# EAGLE library part FEHLER-STROM-SCHUTZSCHALTER_4-POL (library e-sicherungen)
Fehlerstromschutzschalter (FI) 4-pol mit Prüftaster
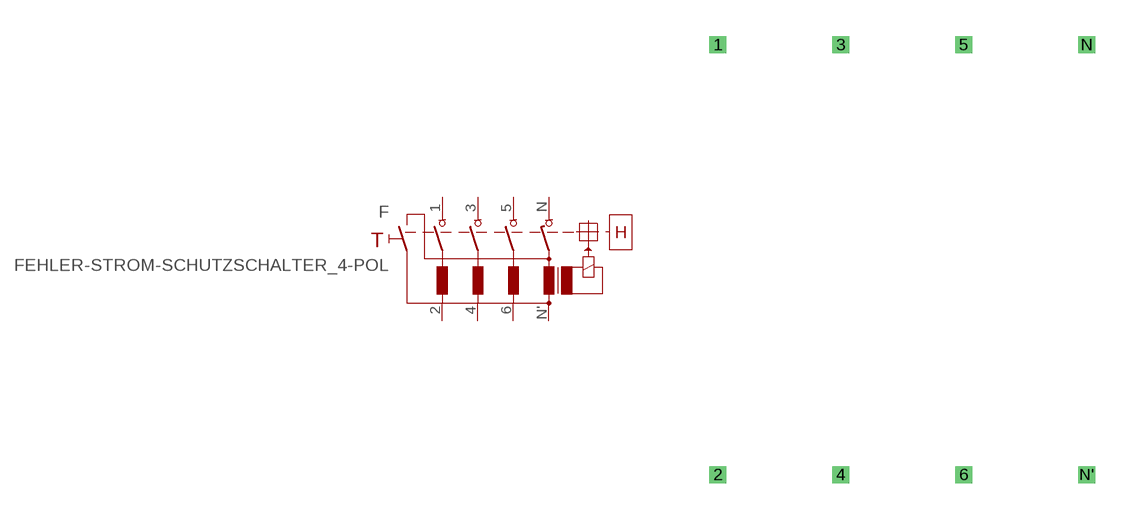
[diagram p5: symbol with the pads of FEHLER-STROM-SCHUTZSCHALTER_4-POL; footprint FEHLER-STROM-SCHUTZSCHALTER_4-POL]

Designator prefix F

## FEHLER-STROM-SCHUTZSCHALTER_4-POL  [FEHLER-STROM-SCHUTZSCHALTER_4-POL]
1  1  pas
2  2  pas
3  3  pas
4  4  pas
5  5  pas
6  6  pas
N  N  pas
N'  N'  pas

## Footprint FEHLER-STROM-SCHUTZSCHALTER_4-POL (pad centres in mm)
Fehlerstromschutzschalter 4-pol
drill 0.2 pad 0.6 square: 1 0,5.08; 2 0,-12.7; 3 5.08,5.08; 4 5.08,-12.7; 5 10.16,5.08; 6 10.16,-12.7; N 15.24,5.08; N' 15.24,-12.7